# Altium schematic symbol library 1467СА3ТБМ.SchLib: 1 symbol
Pins are listed as number, name and electrical type; pins without a type are passive.

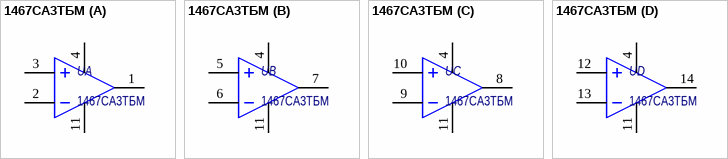
[diagram p0: symbol 1467СА3ТБМ]

## 1467СА3ТБМ
designator U
Микросхема 1467СА3ТБМ представляет собой быстродействующий маломощный счетверенный компаратор напряжений с встроенной петлей гистерезиса, задержкой распространения сигнала не более 70 нс, TTL – совместимыми выходами и предназначена для использования в системах с однополярным питанием +5.0 В. / Микросхема конструктивно выполняется в 14-выводном металлостеклянном корпусе 401.14-5, 401.14-5М.; Потребление, мВт: 24,5; ComponentLink1Description: datasheet; ComponentLink1URL: https://eandc.ru/pdf/mikroskhema/1467sa3tbm.pdf; Назначение: быстродействующий маломощный счетверенный компаратор напряжений с встроенной петлей гистерезиса; Datasheet: https://eandc.ru/pdf/mikroskhema/1467sa3tbm.pdf; Наименование: 1467СА3ТБМ
footprint 401_14-5-1
part A pins: 1, 2, 3, 4, 11
part B pins: 4, 5, 6, 7, 11
part C pins: 4, 8, 9, 10, 11
part D pins: 4, 11, 12, 13, 14